# EAGLE library part STM32F407VET6_DEVEBOX (library ali_modules)
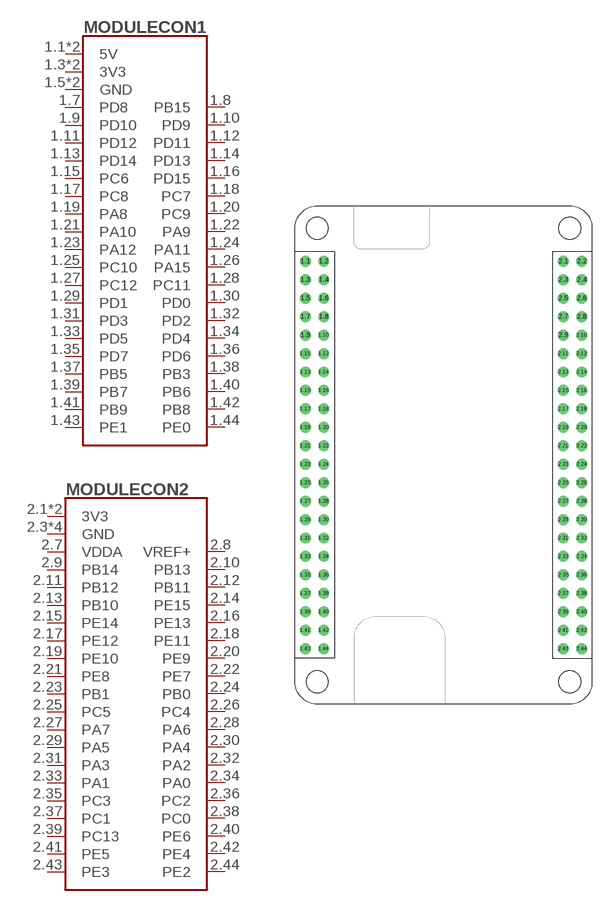
[diagram p13: symbol with the pads of STM32F407VET6_DEVEBOX; footprint STM32F407VET6_DEVEBOX]

Designator prefix MODULE; gates CON1=STM32F407VET6_DEVEBOX_CON1 CON2=STM32F407VET6_DEVEBOX_CON2

## STM32F407VET6_DEVEBOX  [STM32F407VET6_DEVEBOX]
1.1  CON1:5V
1.2  CON1:5V
1.3  CON1:3V3
1.4  CON1:3V3
1.5  CON1:GND
1.6  CON1:GND
1.7  CON1:PD8
1.8  CON1:PB15
1.9  CON1:PD10
1.10  CON1:PD9
1.11  CON1:PD12
1.12  CON1:PD11
1.13  CON1:PD14
1.14  CON1:PD13
1.15  CON1:PC6
1.16  CON1:PD15
1.17  CON1:PC8
1.18  CON1:PC7
1.19  CON1:PA8
1.20  CON1:PC9
1.21  CON1:PA10
1.22  CON1:PA9
1.23  CON1:PA12
1.24  CON1:PA11
1.25  CON1:PC10
1.26  CON1:PA15
1.27  CON1:PC12
1.28  CON1:PC11
1.29  CON1:PD1
1.30  CON1:PD0
1.31  CON1:PD3
1.32  CON1:PD2
1.33  CON1:PD5
1.34  CON1:PD4
1.35  CON1:PD7
1.36  CON1:PD6
1.37  CON1:PB5
1.38  CON1:PB3
1.39  CON1:PB7
1.40  CON1:PB6
1.41  CON1:PB9
1.42  CON1:PB8
1.43  CON1:PE1
1.44  CON1:PE0
2.1  CON2:3V3
2.2  CON2:3V3
2.3  CON2:GND
2.4  CON2:GND
2.5  CON2:GND
2.6  CON2:GND
2.7  CON2:VDDA
2.8  CON2:VREF+
2.9  CON2:PB14
2.10  CON2:PB13
2.11  CON2:PB12
2.12  CON2:PB11
2.13  CON2:PB10
2.14  CON2:PE15
2.15  CON2:PE14
2.16  CON2:PE13
2.17  CON2:PE12
2.18  CON2:PE11
2.19  CON2:PE10
2.20  CON2:PE9
2.21  CON2:PE8
2.22  CON2:PE7
2.23  CON2:PB1
2.24  CON2:PB0
2.25  CON2:PC5
2.26  CON2:PC4
2.27  CON2:PA7
2.28  CON2:PA6
2.29  CON2:PA5
2.30  CON2:PA4
2.31  CON2:PA3
2.32  CON2:PA2
2.33  CON2:PA1
2.34  CON2:PA0
2.35  CON2:PC3
2.36  CON2:PC2
2.37  CON2:PC1
2.38  CON2:PC0
2.39  CON2:PC13
2.40  CON2:PE6
2.41  CON2:PE5
2.42  CON2:PE4
2.43  CON2:PE3
2.44  CON2:PE2

## Footprint STM32F407VET6_DEVEBOX (pad centres in mm)
Datasheet <https://github.com/mcauser/MCUDEV_DEVEBOX_F407VET6/blob/master/docs/STM32F407VX_M_schematics.pdf>
drill 1 pad 1.5: 1.1 -19.05,26.67; 1.2 -16.51,26.67; 1.3 -19.05,24.13; 1.4 -16.51,24.13; 1.5 -19.05,21.59; 1.6 -16.51,21.59; 1.7 -19.05,19.05; 1.8 -16.51,19.05; 1.9 -19.05,16.51; 1.10 -16.51,16.51; 1.11 -19.05,13.97; 1.12 -16.51,13.97; 1.13 -19.05,11.43; 1.14 -16.51,11.43; 1.15 -19.05,8.89; 1.16 -16.51,8.89; 1.17 -19.05,6.35; 1.18 -16.51,6.35; 1.19 -19.05,3.81; 1.20 -16.51,3.81; 1.21 -19.05,1.27; 1.22 -16.51,1.27; 1.23 -19.05,-1.27; 1.24 -16.51,-1.27; 1.25 -19.05,-3.81; 1.26 -16.51,-3.81; 1.27 -19.05,-6.35; 1.28 -16.51,-6.35; 1.29 -19.05,-8.89; 1.30 -16.51,-8.89; 1.31 -19.05,-11.43; 1.32 -16.51,-11.43; 1.33 -19.05,-13.97; 1.34 -16.51,-13.97; 1.35 -19.05,-16.51; 1.36 -16.51,-16.51; 1.37 -19.05,-19.05; 1.38 -16.51,-19.05; 1.39 -19.05,-21.59; 1.40 -16.51,-21.59; 1.41 -19.05,-24.13; 1.42 -16.51,-24.13; 1.43 -19.05,-26.67; 1.44 -16.51,-26.67; 2.1 16.51,26.67; 2.2 19.05,26.67; 2.3 16.51,24.13; 2.4 19.05,24.13; 2.5 16.51,21.59; 2.6 19.05,21.59; 2.7 16.51,19.05; 2.8 19.05,19.05; 2.9 16.51,16.51; 2.10 19.05,16.51; 2.11 16.51,13.97; 2.12 19.05,13.97; 2.13 16.51,11.43; 2.14 19.05,11.43; 2.15 16.51,8.89; 2.16 19.05,8.89; 2.17 16.51,6.35; 2.18 19.05,6.35; 2.19 16.51,3.81; 2.20 19.05,3.81; 2.21 16.51,1.27; 2.22 19.05,1.27; 2.23 16.51,-1.27; 2.24 19.05,-1.27; 2.25 16.51,-3.81; 2.26 19.05,-3.81; 2.27 16.51,-6.35; 2.28 19.05,-6.35; 2.29 16.51,-8.89; 2.30 19.05,-8.89; 2.31 16.51,-11.43; 2.32 19.05,-11.43; 2.33 16.51,-13.97; 2.34 19.05,-13.97; 2.35 16.51,-16.51; 2.36 19.05,-16.51; 2.37 16.51,-19.05; 2.38 19.05,-19.05; 2.39 16.51,-21.59; 2.40 19.05,-21.59; 2.41 16.51,-24.13; 2.42 19.05,-24.13; 2.43 16.51,-26.67; 2.44 19.05,-26.67
hole 3 at -17.395,31.24
hole 3 at 17.395,31.24
hole 3 at -17.395,-31.24
hole 3 at 17.395,-31.24